# EAGLE library part TS3USB221 (library ACB)
TS3USB221
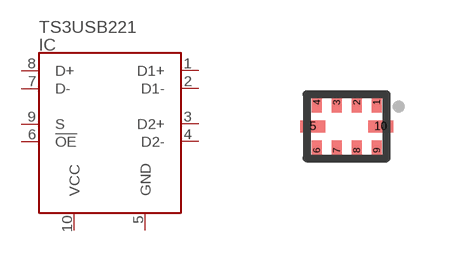
[diagram p5: symbol with the pads of 10-UQFN; footprint 10-UQFN]

Designator prefix IC

## TS3USB221-UQFN  [10-UQFN]
1  D1+
2  D1-
3  D2+
4  D2-
5  GND
6  !OE
7  D-
8  D+
9  S
10  VCC

## Footprint 10-UQFN (pad centres in mm)
smd 0.25 x 0.5: 1 0.75,0.6; 2 0.25,0.6; 3 -0.25,0.6; 4 -0.75,0.6; 6 -0.75,-0.6; 7 -0.25,-0.6; 8 0.25,-0.6; 9 0.75,-0.6
smd 0.63 x 0.3: 5 -0.85,0; 10 0.85,0